# Altium footprint library SPACER_M2.PcbLib: 1 footprints
Each footprint in its own frame and in the unit in brackets; x right, y up, seen from the top. Pads: shape width x height; smd on the part's side, far side on the other; paste and mask are expansions set on the pad; w line width, h text height; cw(c..) or ccw(c..) is an arc to the next point about the centre after c.
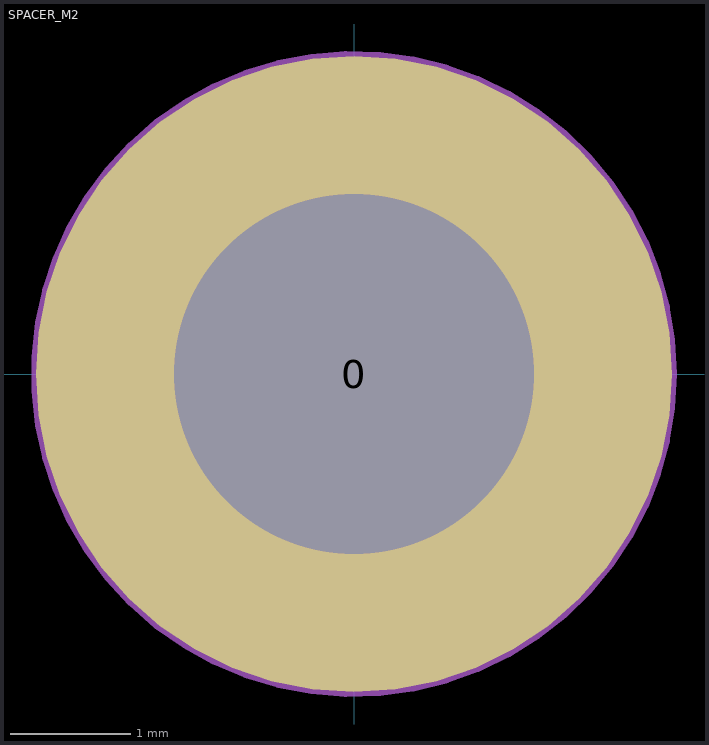
[diagram p0: the footprint, top view; thin cyan lines are the x and y axes]

## SPACER_M2 [mm]
height 2
pads (1):
  round 5.3 hole 3: 0(0,0)
Mechanical 15:
  circle w0.1: c0,0 r2.64
3D body: height 2.2, standoff -1.2, extent -2.175,-2.171 2.158,2.171